# Altium integrated library TPS7A80.IntLib: 1 symbol
Pins are listed as number, name and electrical type; pins without a type are passive.

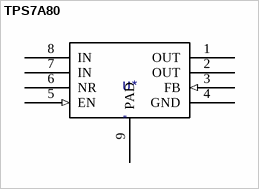
[diagram p0: symbol TPS7A80]

## TPS7A80
designator U*
footprint SON_8
pins: 1 OUT (power), 2 OUT (power), 3 FB (in), 4 GND (power), 5 EN (in), 6 NR, 7 IN (power), 8 IN (power), 9 PAD (power)